# EAGLE library part 1X15 (library Ai_Connectors)
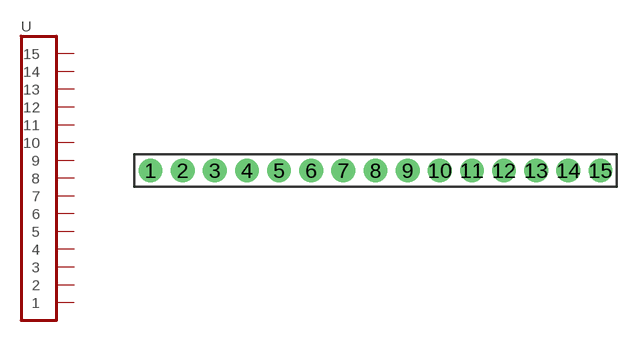
[diagram p18: symbol with the pads of 1X15; footprint 1X15]

Designator prefix -

## 1X15  [1X15]
1  1
2  2
3  3
4  4
5  5
6  6
7  7
8  8
9  9
10  10
11  11
12  12
13  13
14  14
15  15

## Footprint 1X15 (pad centres in mm)
drill 1.016 pad 1.88: 1 -17.78,0; 2 -15.24,0; 3 -12.7,0; 4 -10.16,0; 5 -7.62,0; 6 -5.08,0; 7 -2.54,0; 8 0,0; 9 2.54,0; 10 5.08,0; 11 7.62,0; 12 10.16,0; 13 12.7,0; 14 15.24,0; 15 17.78,0